# Altium schematic symbol library WS-PBSU.SchLib: 1 symbol
Pins are listed as number, name and electrical type; pins without a type are passive.

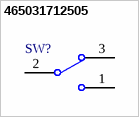
[diagram p0: symbol 465031712505]

## 465031712505
designator SW?  (value not drawn)
WS-PBSU SMT Push Button Switch Side Push 9.8x18.5 mm, SPDT, ON-(ON), auto-return; Manufacturer: Wurth Elektronik; Manufacturer Part Number: 465031712505; Category: Push Button Switch; Match Code: WS-PBSU; ComponentLink1Description: Website Link; ComponentLink1URL: https://www.we-online.com; ComponentLink2Description: Datasheet Link; ComponentLink2URL: https://www.we-online.com/components/products/datasheet/465031712505; Mount: Surface Mount; Operating Temperature Min: -40degC; Operating Temperature Max: 85degC; Packaging: Tape and Reel; Length: 18.5mm; Width: 9.8mm; Height: 5.9mm; Actuation Function: auto-return; Schematic: SPDT; Switching Function: ON-(ON)
footprint 465031712505
pins: 1, 2 COM, 3